# EAGLE library part DRV2605L (library Deegou_IC)
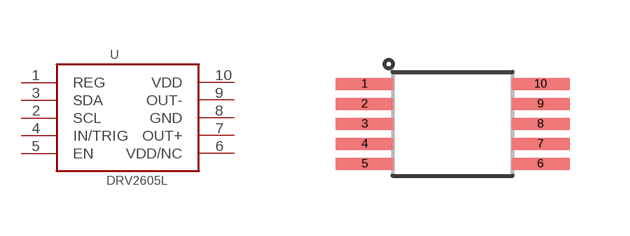
[diagram p126: symbol with the pads of VSSOP-10; footprint VSSOP-10]

Designator prefix U

## DRV2605L (PROD_ID: IC-13504)  [VSSOP-10]
1  REG
2  SCL
3  SDA
4  IN/TRIG
5  EN
6  VDD/NC
7  OUT+
8  GND
9  OUT-
10  VDD

## Footprint VSSOP-10 (pad centres in mm)
smd 1.45 x 0.3: 1 -1.905,1.06; 2 -1.905,0.56; 3 -1.905,0.06; 4 -1.905,-0.44; 5 -1.905,-0.94; 6 2.495,-0.94; 7 2.495,-0.44; 8 2.495,0.06; 9 2.495,0.56; 10 2.495,1.06